# Altium footprint library CSCF2014 Series.PcbLib: 1 footprints
Each footprint in its own frame and in the unit in brackets; x right, y up, seen from the top. Pads: shape width x height; smd on the part's side, far side on the other; paste and mask are expansions set on the pad; w line width, h text height; cw(c..) or ccw(c..) is an arc to the next point about the centre after c.
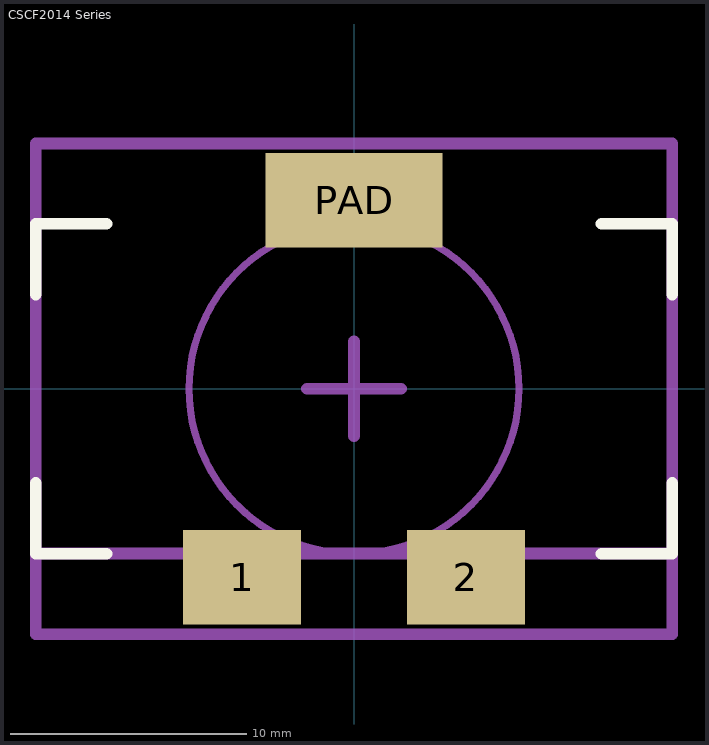
[diagram p0: the footprint, top view; thin cyan lines are the x and y axes]

## CSCF2014 Series [mm] "CODACA High Current Power Inductors CSCF2014 Series"
height 14.5
pads (3):
  rect 5x4 smd: 1(-4.75,-8) 2(4.75,-8)
  rect 7.5x4 smd: PAD(0,8)
Top Overlay:
  lines w0.5: -13.5,-4 -13.5,-7 -10.5,-7 ; -13.5,4 -13.5,7 -10.5,7 ; 10.5,-7 13.5,-7 13.5,-4 ; 10.5,7 13.5,7 13.5,4
Mechanical 15:
  circle w0.3: c0,0 r7
  lines w0.5: -13.5,-9.4 -13.5,10.4 13.5,10.4 13.5,-6.985 -13.5,-6.985 -13.5,-10.414 0.714,-10.414 13.5,-10.414 13.5,-6.858 ; -2,0 2,0 ; 0,-2 0,2
3D body: height 1, standoff 0, extent -2.627,6.477 2.373,9.813
3D body: height 14.5, standoff 0.7, extent -13.4,-7.112 13.4,6.985
3D body: height 1, standoff 0, extent -7.235,-9.869 -2.235,-6.533
3D body: height 1, standoff 0, extent 2.239,-9.925 7.239,-6.716